# Altium schematic symbol library IEEE1394_Fire Wire.SchLib: 3 symbols
Pins are listed as number, name and electrical type; pins without a type are passive.

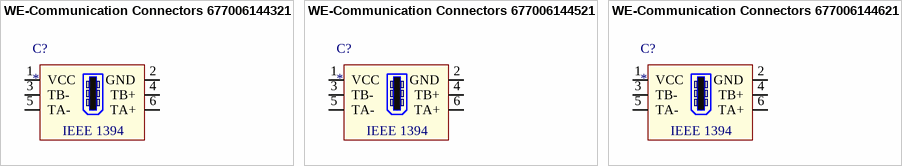
[diagram p0: symbols WE-Communication Connectors 677006144321 to WE-Communication Connectors 677006144621]

## WE-Communication Connectors 677006144321
designator C?
WR-COM IEEE 1394 connector; Manufacturer: Würth Elektronik eiSos GmbH; partNo: 677006144321; ComponentLink1 Description: Manufacturer; ComponentLink2 Description: Datasheet; NoPins: 6; ComponentLink1URL: http://www.we-online.de; ComponentLink2URL: http://katalog.we-online.de/em/datasheet/677006144321.pdf; Created by: Karrer Zheng; Created Date: 10/10/2014
footprint 677006144321
pins: 1 VCC, 2 GND, 3 TB-, 4 TB+, 5 TA-, 6 TA+
text: IEEE 1394

## WE-Communication Connectors 677006144521
designator C?
WR-COM IEEE 1394 connector; Manufacturer: Würth Elektronik eiSos GmbH; partNo: 677006144521; ComponentLink1 Description: Manufacturer; ComponentLink2 Description: Datasheet; NoPins: 6; ComponentLink1URL: http://www.we-online.de; ComponentLink2URL: http://katalog.we-online.de/em/datasheet/677006144521.pdf; Created by: Karrer Zheng; Created Date: 10/10/2014
footprint 677006144521
pins: 1 VCC, 2 GND, 3 TB-, 4 TB+, 5 TA-, 6 TA+
text: IEEE 1394

## WE-Communication Connectors 677006144621
designator C?
WR-COM IEEE 1394 connector; Manufacturer: Würth Elektronik eiSos GmbH; partNo: 677006144621; ComponentLink1 Description: Manufacturer; ComponentLink2 Description: Datasheet; NoPins: 6; ComponentLink1URL: http://www.we-online.de; ComponentLink2URL: http://katalog.we-online.de/em/datasheet/677006144621.pdf; Created by: Karrer Zheng; Created Date: 10/10/2014
footprint 677006144621
pins: 1 VCC, 2 GND, 3 TB-, 4 TB+, 5 TA-, 6 TA+
text: IEEE 1394